# Altium schematic symbol library kmilo17pet-NSC_Switcher.SchLib: 2226 symbols (part 35 of 59)
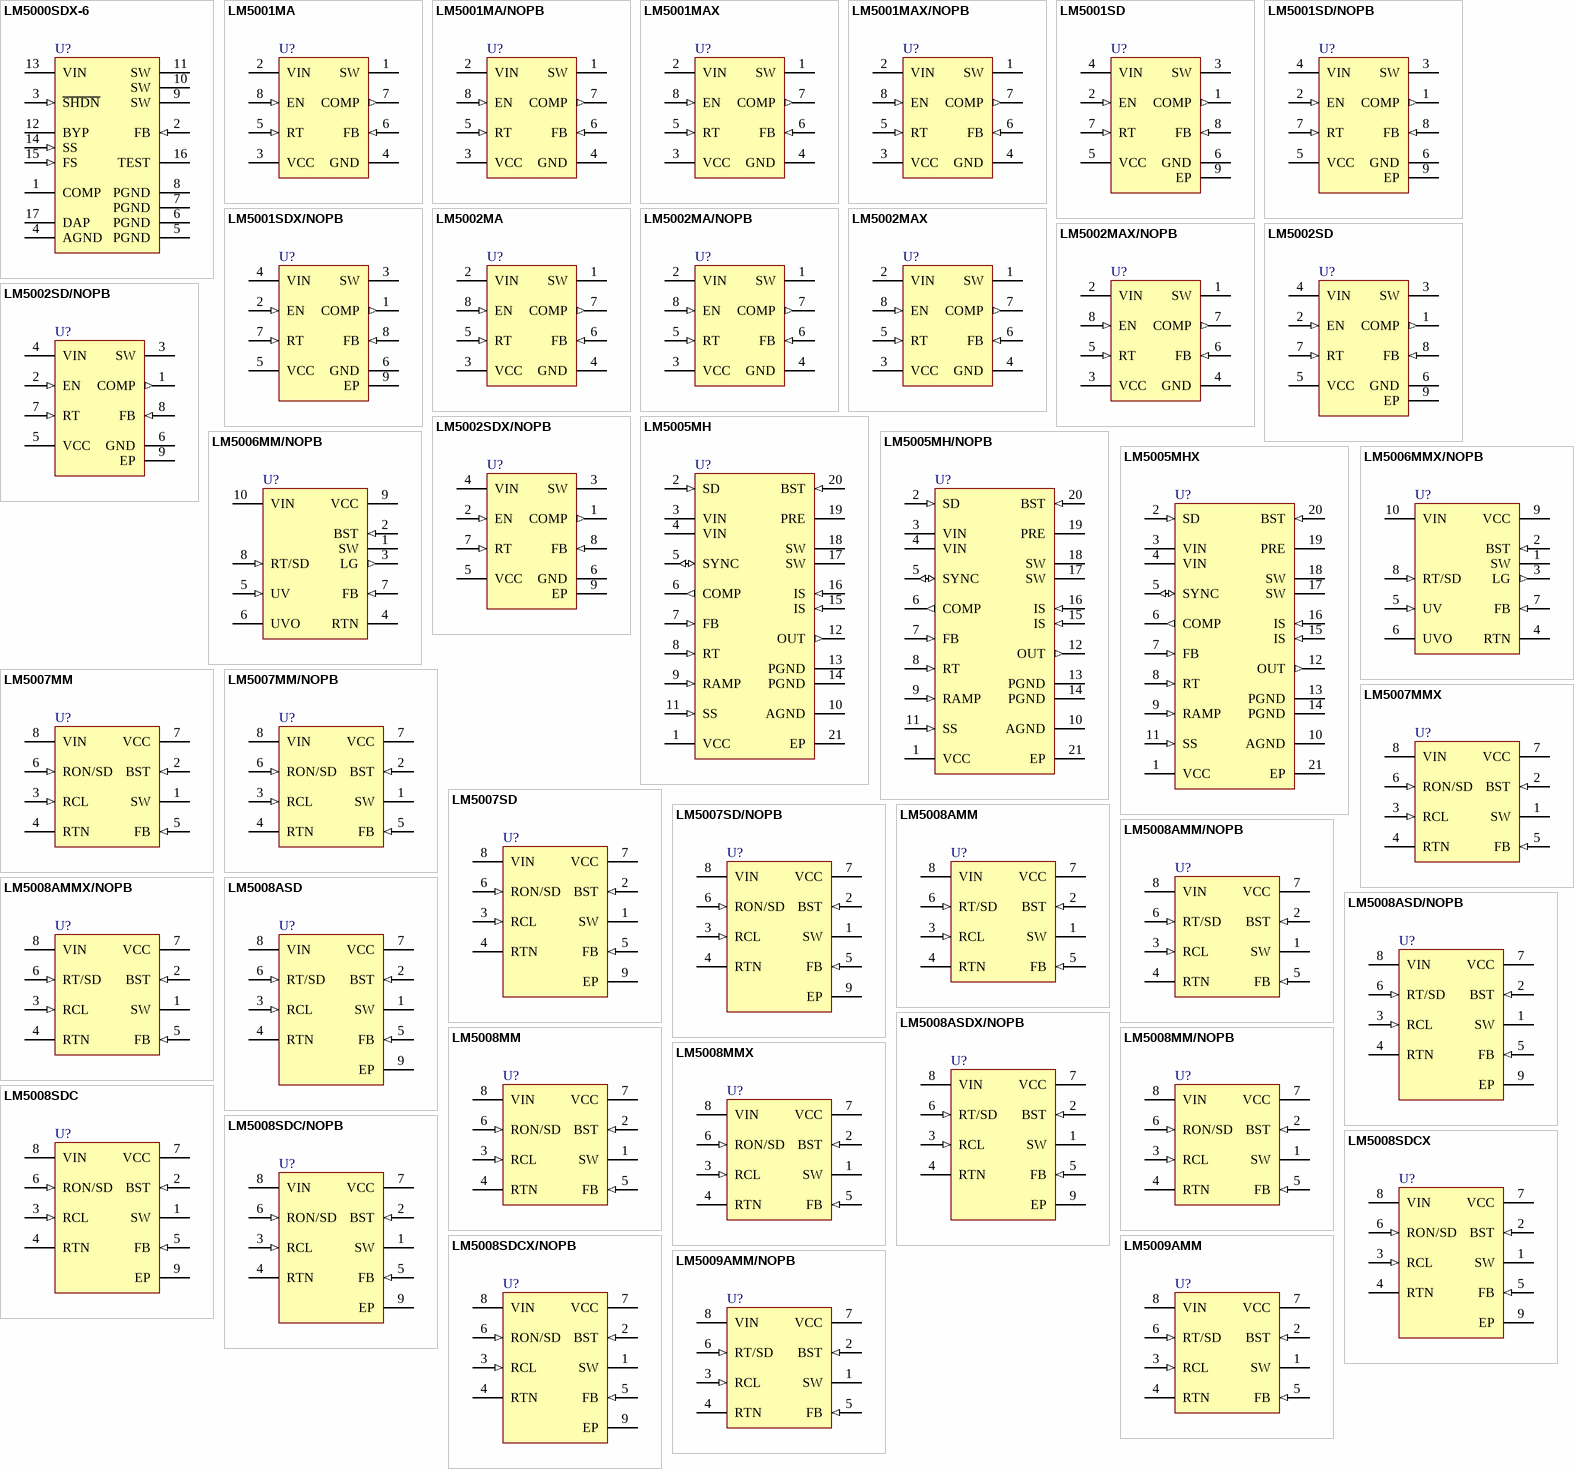
[diagram p103: symbols LM5000SDX-6 to LM5009AMM/NOPB]

## LM5008ASD/NOPB
designator U?
100V, 350 mA Constant On-Time Buck Switching Regulator, 8-pin LLP, Pb-Free; PartNumber: LM5008ASD/NOPB; Manufacturer: National Semiconductor; PackageTopMarking: NS*UZXYTT*L00070A; PowerWise: N; CompType: Switcher; High-Reliability: Y; DatasheetVersion: Jun-2009; PackageVersion: revA, Mar-2006; PackageReference: SDC08B; PackageDescription: LLP, Dual, 4 x 4 x 0.8mm Body, 8 Lead, 0.8mm Pitch, No Pullback, 1.98 x 3mm Exposed Pad; RoHS: Y; PinCount: 8; ComponentLink1Description: Manufacturer URL; ComponentLink1URL: http://www.national.com/; ComponentLink2Description: LM5008A Datasheet; ComponentLink2URL: http://www.national.com/ds/LM/LM5008A.pdf; ComponentLink3Description: LM5008A Web Page; ComponentLink3URL: http://www.national.com/pf/LM/LM5008A.html; ComponentLink4Description: SDC08B Package Page; ComponentLink4URL: http://www.national.com/packaging/folders/sdc08b.html
footprint SDC08B (SON, 8-Leads, Body 4x4mm, Pitch 0.8mm, NSC Recommended)
pins: 1 SW (power), 2 BST (in), 3 RCL (in), 4 RTN (power), 5 FB (in), 6 RT/SD (in), 7 VCC (power), 8 VIN (power), 9 EP (power)

## LM5008ASDX/NOPB
designator U?
100V, 350 mA Constant On-Time Buck Switching Regulator, 8-pin LLP, Pb-Free; PartNumber: LM5008ASDX/NOPB; Manufacturer: National Semiconductor; PackageTopMarking: NS*UZXYTT*L00070A; PowerWise: N; CompType: Switcher; High-Reliability: Y; DatasheetVersion: Jun-2009; PackageVersion: revA, Mar-2006; PackageReference: SDC08B; PackageDescription: LLP, Dual, 4 x 4 x 0.8mm Body, 8 Lead, 0.8mm Pitch, No Pullback, 1.98 x 3mm Exposed Pad; RoHS: Y; PinCount: 8; ComponentLink1Description: Manufacturer URL; ComponentLink1URL: http://www.national.com/; ComponentLink2Description: LM5008A Datasheet; ComponentLink2URL: http://www.national.com/ds/LM/LM5008A.pdf; ComponentLink3Description: LM5008A Web Page; ComponentLink3URL: http://www.national.com/pf/LM/LM5008A.html; ComponentLink4Description: SDC08B Package Page; ComponentLink4URL: http://www.national.com/packaging/folders/sdc08b.html
footprint SDC08B (SON, 8-Leads, Body 4x4mm, Pitch 0.8mm, NSC Recommended)
pins: 1 SW (power), 2 BST (in), 3 RCL (in), 4 RTN (power), 5 FB (in), 6 RT/SD (in), 7 VCC (power), 8 VIN (power), 9 EP (power)

## LM5008MM
designator U?
High Voltage (100V) Step Down Switching Regulator, 8-pin MSOP; PartNumber: LM5008MM; Manufacturer: National Semiconductor; PackageTopMarking: ZXTT*SAYB; PowerWise: N; CompType: Switcher; High-Reliability: Y; DatasheetVersion: Apr-2009; PackageVersion: revF, Apr-2008; PackageReference: MUA08A; PackageDescription: MINI SOIC, .118 x .118 x .034in, 8 Lead, .0256in Pitch; RoHS: N; PinCount: 8; Code_JEDEC: MO-187-AA; ComponentLink1Description: Manufacturer URL; ComponentLink1URL: http://www.national.com/; ComponentLink2Description: LM5008 Datasheet; ComponentLink2URL: http://www.national.com/ds/LM/LM5008.pdf; ComponentLink3Description: LM5008 Web Page; ComponentLink3URL: http://www.national.com/pf/LM/LM5008.html; ComponentLink4Description: MUA08A Package Page; ComponentLink4URL: http://www.national.com/packaging/folders/mua08a.html
footprint MUA08A_N (TSOP, 8-Leads, Body 3x3mm, Pitch 0.65mm, IPC Medium Density)
footprint MUA08A_L (TSOP, 8-Leads, Body 3x3mm, Pitch 0.65mm, IPC High Density)
footprint MUA08A_M (TSOP, 8-Leads, Body 3x3mm, Pitch 0.65mm, IPC Low Density)
pins: 1 SW (power), 2 BST (in), 3 RCL (in), 4 RTN (power), 5 FB (in), 6 RON/SD (in), 7 VCC (power), 8 VIN (power)

## LM5008MM/NOPB
designator U?
High Voltage (100V) Step Down Switching Regulator, 8-pin MSOP, Pb-Free; PartNumber: LM5008MM/NOPB; Manufacturer: National Semiconductor; PackageTopMarking: ZXTT*SAYB; PowerWise: N; CompType: Switcher; High-Reliability: Y; DatasheetVersion: Apr-2009; PackageVersion: revF, Apr-2008; PackageReference: MUA08A; PackageDescription: MINI SOIC, .118 x .118 x .034in, 8 Lead, .0256in Pitch; RoHS: Y; PinCount: 8; Code_JEDEC: MO-187-AA; ComponentLink1Description: Manufacturer URL; ComponentLink1URL: http://www.national.com/; ComponentLink2Description: LM5008 Datasheet; ComponentLink2URL: http://www.national.com/ds/LM/LM5008.pdf; ComponentLink3Description: LM5008 Web Page; ComponentLink3URL: http://www.national.com/pf/LM/LM5008.html; ComponentLink4Description: MUA08A Package Page; ComponentLink4URL: http://www.national.com/packaging/folders/mua08a.html
footprint MUA08A_N (TSOP, 8-Leads, Body 3x3mm, Pitch 0.65mm, IPC Medium Density)
footprint MUA08A_L (TSOP, 8-Leads, Body 3x3mm, Pitch 0.65mm, IPC High Density)
footprint MUA08A_M (TSOP, 8-Leads, Body 3x3mm, Pitch 0.65mm, IPC Low Density)
pins: 1 SW (power), 2 BST (in), 3 RCL (in), 4 RTN (power), 5 FB (in), 6 RON/SD (in), 7 VCC (power), 8 VIN (power)

## LM5008MMX
designator U?
High Voltage (100V) Step Down Switching Regulator, 8-pin MSOP; PartNumber: LM5008MMX; Manufacturer: National Semiconductor; PackageTopMarking: ZXTT*SAYB; PowerWise: N; CompType: Switcher; High-Reliability: Y; DatasheetVersion: Apr-2009; PackageVersion: revF, Apr-2008; PackageReference: MUA08A; PackageDescription: MINI SOIC, .118 x .118 x .034in, 8 Lead, .0256in Pitch; RoHS: N; PinCount: 8; Code_JEDEC: MO-187-AA; ComponentLink1Description: Manufacturer URL; ComponentLink1URL: http://www.national.com/; ComponentLink2Description: LM5008 Datasheet; ComponentLink2URL: http://www.national.com/ds/LM/LM5008.pdf; ComponentLink3Description: LM5008 Web Page; ComponentLink3URL: http://www.national.com/pf/LM/LM5008.html; ComponentLink4Description: MUA08A Package Page; ComponentLink4URL: http://www.national.com/packaging/folders/mua08a.html
footprint MUA08A_N (TSOP, 8-Leads, Body 3x3mm, Pitch 0.65mm, IPC Medium Density)
footprint MUA08A_L (TSOP, 8-Leads, Body 3x3mm, Pitch 0.65mm, IPC High Density)
footprint MUA08A_M (TSOP, 8-Leads, Body 3x3mm, Pitch 0.65mm, IPC Low Density)
pins: 1 SW (power), 2 BST (in), 3 RCL (in), 4 RTN (power), 5 FB (in), 6 RON/SD (in), 7 VCC (power), 8 VIN (power)

## LM5008SDC
designator U?
High Voltage (100V) Step Down Switching Regulator, 8-pin LLP; PartNumber: LM5008SDC; Manufacturer: National Semiconductor; PackageTopMarking: NS*UZXYTT*L5008SD; PowerWise: N; CompType: Switcher; High-Reliability: Y; DatasheetVersion: Apr-2009; PackageVersion: revA, Mar-2006; PackageReference: SDC08B; PackageDescription: LLP, Dual, 4 x 4 x 0.8mm Body, 8 Lead, 0.8mm Pitch, No Pullback, 1.98 x 3mm Exposed Pad; RoHS: N; PinCount: 8; ComponentLink1Description: Manufacturer URL; ComponentLink1URL: http://www.national.com/; ComponentLink2Description: LM5008 Datasheet; ComponentLink2URL: http://www.national.com/ds/LM/LM5008.pdf; ComponentLink3Description: LM5008 Web Page; ComponentLink3URL: http://www.national.com/pf/LM/LM5008.html; ComponentLink4Description: SDC08B Package Page; ComponentLink4URL: http://www.national.com/packaging/folders/sdc08b.html
footprint SDC08B (SON, 8-Leads, Body 4x4mm, Pitch 0.8mm, NSC Recommended)
pins: 1 SW (power), 2 BST (in), 3 RCL (in), 4 RTN (power), 5 FB (in), 6 RON/SD (in), 7 VCC (power), 8 VIN (power), 9 EP (power)

## LM5008SDC/NOPB
designator U?
High Voltage (100V) Step Down Switching Regulator, 8-pin LLP, Pb-Free; PartNumber: LM5008SDC/NOPB; Manufacturer: National Semiconductor; PackageTopMarking: NS*UZXYTT*L5008SD; PowerWise: N; CompType: Switcher; High-Reliability: Y; DatasheetVersion: Apr-2009; PackageVersion: revA, Mar-2006; PackageReference: SDC08B; PackageDescription: LLP, Dual, 4 x 4 x 0.8mm Body, 8 Lead, 0.8mm Pitch, No Pullback, 1.98 x 3mm Exposed Pad; RoHS: Y; PinCount: 8; ComponentLink1Description: Manufacturer URL; ComponentLink1URL: http://www.national.com/; ComponentLink2Description: LM5008 Datasheet; ComponentLink2URL: http://www.national.com/ds/LM/LM5008.pdf; ComponentLink3Description: LM5008 Web Page; ComponentLink3URL: http://www.national.com/pf/LM/LM5008.html; ComponentLink4Description: SDC08B Package Page; ComponentLink4URL: http://www.national.com/packaging/folders/sdc08b.html
footprint SDC08B (SON, 8-Leads, Body 4x4mm, Pitch 0.8mm, NSC Recommended)
pins: 1 SW (power), 2 BST (in), 3 RCL (in), 4 RTN (power), 5 FB (in), 6 RON/SD (in), 7 VCC (power), 8 VIN (power), 9 EP (power)

## LM5008SDCX
designator U?
High Voltage (100V) Step Down Switching Regulator, 8-pin LLP; PartNumber: LM5008SDCX; Manufacturer: National Semiconductor; PackageTopMarking: NS*UZXYTT*L5008SD; PowerWise: N; CompType: Switcher; High-Reliability: Y; DatasheetVersion: Apr-2009; PackageVersion: revA, Mar-2006; PackageReference: SDC08B; PackageDescription: LLP, Dual, 4 x 4 x 0.8mm Body, 8 Lead, 0.8mm Pitch, No Pullback, 1.98 x 3mm Exposed Pad; RoHS: N; PinCount: 8; ComponentLink1Description: Manufacturer URL; ComponentLink1URL: http://www.national.com/; ComponentLink2Description: LM5008 Datasheet; ComponentLink2URL: http://www.national.com/ds/LM/LM5008.pdf; ComponentLink3Description: LM5008 Web Page; ComponentLink3URL: http://www.national.com/pf/LM/LM5008.html; ComponentLink4Description: SDC08B Package Page; ComponentLink4URL: http://www.national.com/packaging/folders/sdc08b.html
footprint SDC08B (SON, 8-Leads, Body 4x4mm, Pitch 0.8mm, NSC Recommended)
pins: 1 SW (power), 2 BST (in), 3 RCL (in), 4 RTN (power), 5 FB (in), 6 RON/SD (in), 7 VCC (power), 8 VIN (power), 9 EP (power)

## LM5008SDCX/NOPB
designator U?
High Voltage (100V) Step Down Switching Regulator, 8-pin LLP, Pb-Free; PartNumber: LM5008SDCX/NOPB; Manufacturer: National Semiconductor; PackageTopMarking: NS*UZXYTT*L5008SD; PowerWise: N; CompType: Switcher; High-Reliability: Y; DatasheetVersion: Apr-2009; PackageVersion: revA, Mar-2006; PackageReference: SDC08B; PackageDescription: LLP, Dual, 4 x 4 x 0.8mm Body, 8 Lead, 0.8mm Pitch, No Pullback, 1.98 x 3mm Exposed Pad; RoHS: Y; PinCount: 8; ComponentLink1Description: Manufacturer URL; ComponentLink1URL: http://www.national.com/; ComponentLink2Description: LM5008 Datasheet; ComponentLink2URL: http://www.national.com/ds/LM/LM5008.pdf; ComponentLink3Description: LM5008 Web Page; ComponentLink3URL: http://www.national.com/pf/LM/LM5008.html; ComponentLink4Description: SDC08B Package Page; ComponentLink4URL: http://www.national.com/packaging/folders/sdc08b.html
footprint SDC08B (SON, 8-Leads, Body 4x4mm, Pitch 0.8mm, NSC Recommended)
pins: 1 SW (power), 2 BST (in), 3 RCL (in), 4 RTN (power), 5 FB (in), 6 RON/SD (in), 7 VCC (power), 8 VIN (power), 9 EP (power)

## LM5009AMM
designator U?
150 mA, 100V Step-Down Switching Regulator, 8-pin MSOP; PartNumber: LM5009AMM; Manufacturer: National Semiconductor; PackageTopMarking: ZXTT*SLLA; PowerWise: Y; CompType: Switcher; DatasheetVersion: Jun-2009; PackageVersion: revF, Apr-2008; PackageReference: MUA08A; PackageDescription: MINI SOIC, .118 x .118 x .034in, 8 Lead, .0256in Pitch; RoHS: Y; PinCount: 8; High-Reliability: Y; Code_JEDEC: MO-187-AA; ComponentLink1Description: Manufacturer URL; ComponentLink1URL: http://www.national.com/; ComponentLink2Description: LM5009A Datasheet; ComponentLink2URL: http://www.national.com/ds/LM/LM5009A.pdf; ComponentLink3Description: LM5009A Web Page; ComponentLink3URL: http://www.national.com/pf/LM/LM5009A.html; ComponentLink4Description: MUA08A Package Page; ComponentLink4URL: http://www.national.com/packaging/folders/mua08a.html
footprint MUA08A_N (TSOP, 8-Leads, Body 3x3mm, Pitch 0.65mm, IPC Medium Density)
footprint MUA08A_L (TSOP, 8-Leads, Body 3x3mm, Pitch 0.65mm, IPC High Density)
footprint MUA08A_M (TSOP, 8-Leads, Body 3x3mm, Pitch 0.65mm, IPC Low Density)
pins: 1 SW (power), 2 BST (in), 3 RCL (in), 4 RTN (power), 5 FB (in), 6 RT/SD (in), 7 VCC (power), 8 VIN (power)

## LM5009AMM/NOPB
designator U?
100V, 150 mA Constant On-Time Buck Switching Regulator, 8-pin MSOP, Pb-Free; PartNumber: LM5009AMM/NOPB; Manufacturer: National Semiconductor; PackageTopMarking: ZXTT*SLLA; PowerWise: Y; CompType: Switcher; DatasheetVersion: Jun-2009; PackageVersion: revF, Apr-2008; PackageReference: MUA08A; PackageDescription: MINI SOIC, .118 x .118 x .034in, 8 Lead, .0256in Pitch; RoHS: Y; PinCount: 8; High-Reliability: Y; Code_JEDEC: MO-187-AA; ComponentLink1Description: Manufacturer URL; ComponentLink1URL: http://www.national.com/; ComponentLink2Description: LM5009A Datasheet; ComponentLink2URL: http://www.national.com/ds/LM/LM5009A.pdf; ComponentLink3Description: LM5009A Web Page; ComponentLink3URL: http://www.national.com/pf/LM/LM5009A.html; ComponentLink4Description: MUA08A Package Page; ComponentLink4URL: http://www.national.com/packaging/folders/mua08a.html
footprint MUA08A_N (TSOP, 8-Leads, Body 3x3mm, Pitch 0.65mm, IPC Medium Density)
footprint MUA08A_L (TSOP, 8-Leads, Body 3x3mm, Pitch 0.65mm, IPC High Density)
footprint MUA08A_M (TSOP, 8-Leads, Body 3x3mm, Pitch 0.65mm, IPC Low Density)
pins: 1 SW (power), 2 BST (in), 3 RCL (in), 4 RTN (power), 5 FB (in), 6 RT/SD (in), 7 VCC (power), 8 VIN (power)

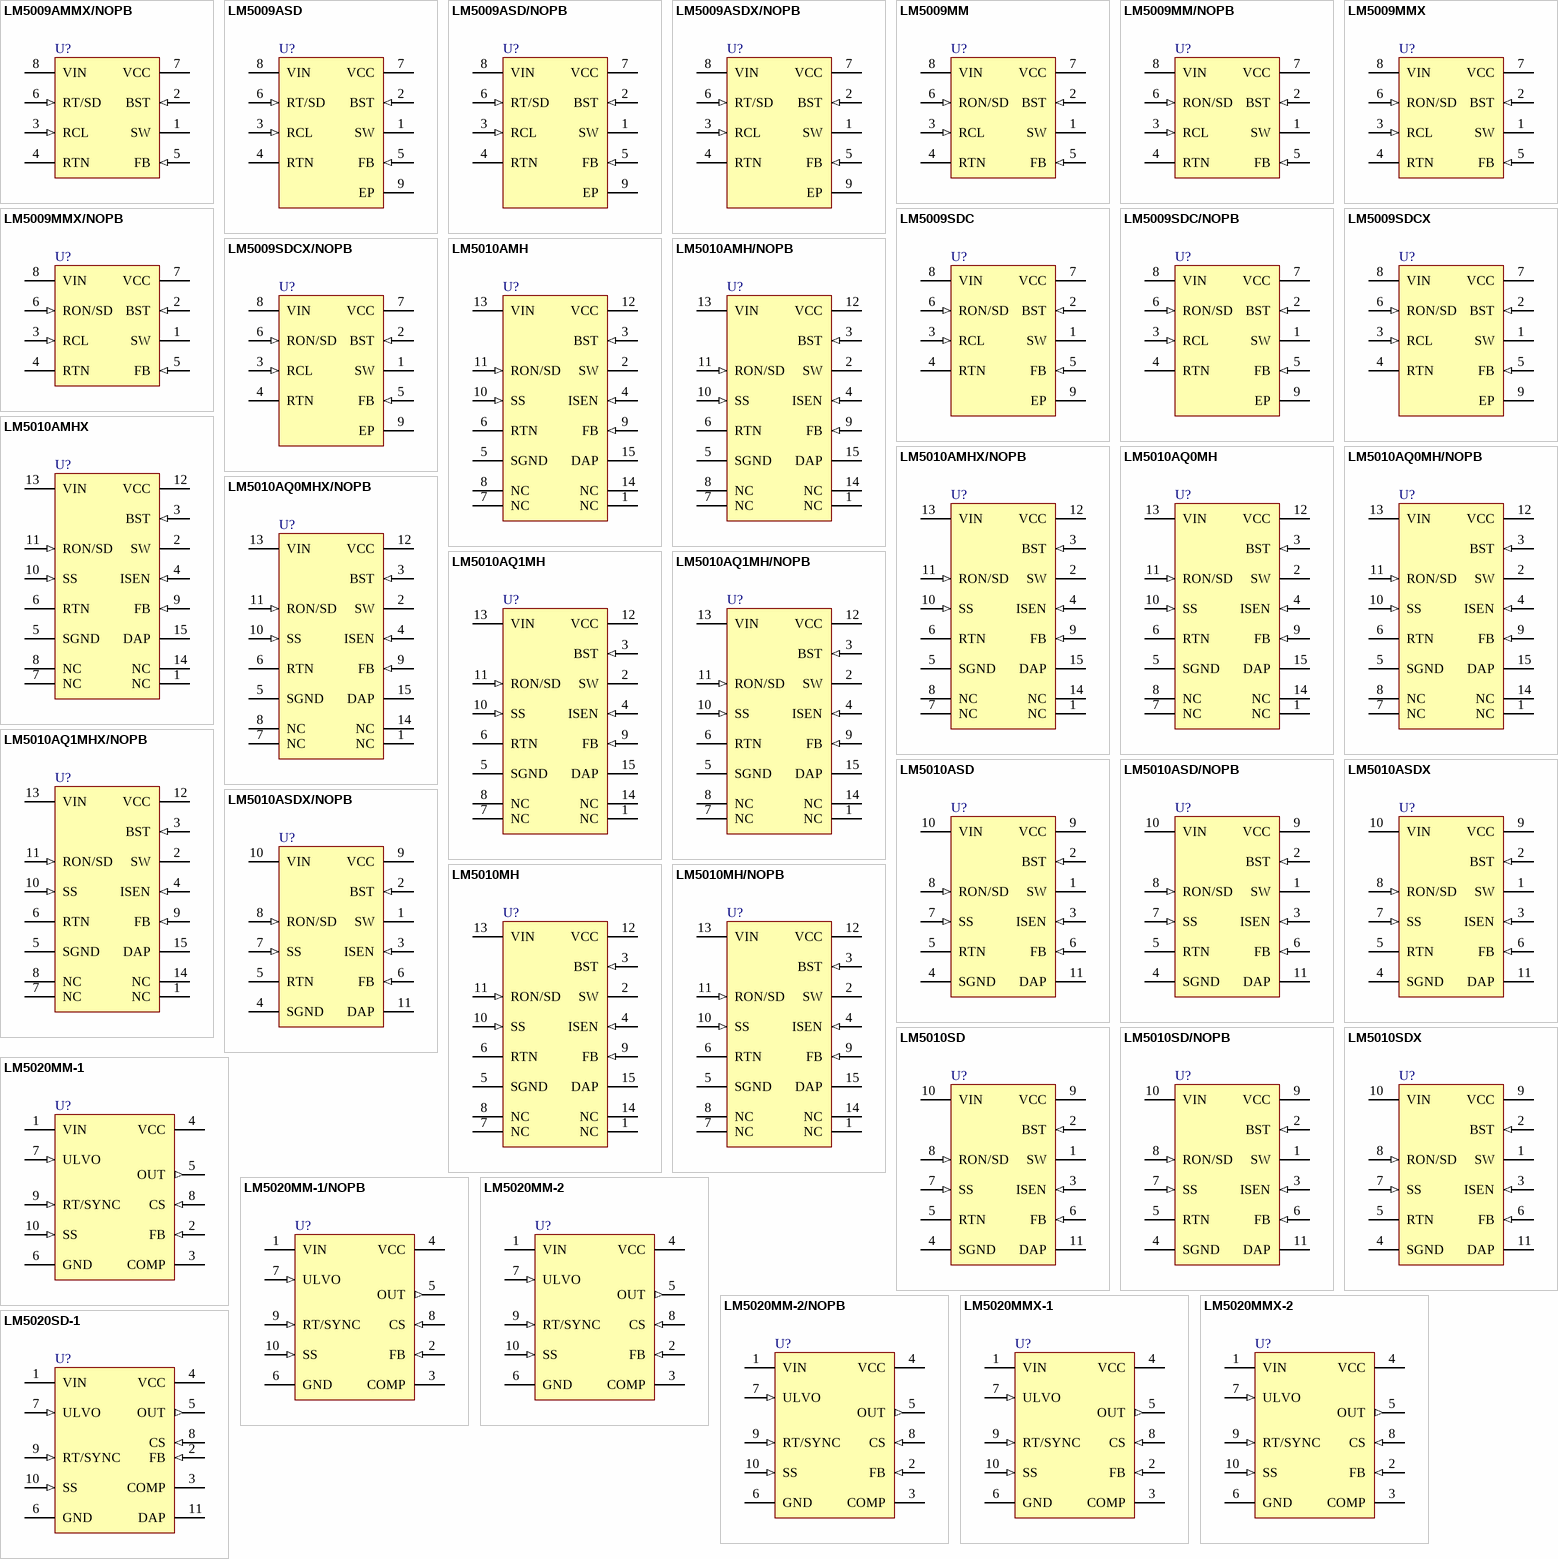
[diagram p38: symbols LM5009AMMX/NOPB to LM5020SD-1]

## LM5009AMMX/NOPB
designator U?
100V, 150 mA Constant On-Time Buck Switching Regulator, 8-pin MSOP, Pb-Free; PartNumber: LM5009AMMX/NOPB; Manufacturer: National Semiconductor; PackageTopMarking: ZXTT*SLLA; PowerWise: Y; CompType: Switcher; DatasheetVersion: Jun-2009; PackageVersion: revF, Apr-2008; PackageReference: MUA08A; PackageDescription: MINI SOIC, .118 x .118 x .034in, 8 Lead, .0256in Pitch; RoHS: Y; PinCount: 8; High-Reliability: Y; Code_JEDEC: MO-187-AA; ComponentLink1Description: Manufacturer URL; ComponentLink1URL: http://www.national.com/; ComponentLink2Description: LM5009A Datasheet; ComponentLink2URL: http://www.national.com/ds/LM/LM5009A.pdf; ComponentLink3Description: LM5009A Web Page; ComponentLink3URL: http://www.national.com/pf/LM/LM5009A.html; ComponentLink4Description: MUA08A Package Page; ComponentLink4URL: http://www.national.com/packaging/folders/mua08a.html
footprint MUA08A_N (TSOP, 8-Leads, Body 3x3mm, Pitch 0.65mm, IPC Medium Density)
footprint MUA08A_L (TSOP, 8-Leads, Body 3x3mm, Pitch 0.65mm, IPC High Density)
footprint MUA08A_M (TSOP, 8-Leads, Body 3x3mm, Pitch 0.65mm, IPC Low Density)
pins: 1 SW (power), 2 BST (in), 3 RCL (in), 4 RTN (power), 5 FB (in), 6 RT/SD (in), 7 VCC (power), 8 VIN (power)

## LM5009ASD
designator U?
150 mA, 100V Step-Down Switching Regulatorr, 8-pin LLP; PartNumber: LM5009ASD; Manufacturer: National Semiconductor; PackageTopMarking: NS*UZXYTT*5009ASD; PowerWise: Y; CompType: Switcher; DatasheetVersion: Jun-2009; PackageVersion: revA, Mar-2006; PackageReference: SDC08B; PackageDescription: LLP, Dual, 4 x 4 x 0.8mm Body, 8 Lead, 0.8mm Pitch, No Pullback, 1.98 x 3mm Exposed Pad; RoHS: Y; PinCount: 8; High-Reliability: Y; ComponentLink1Description: Manufacturer URL; ComponentLink1URL: http://www.national.com/; ComponentLink2Description: LM5009A Datasheet; ComponentLink2URL: http://www.national.com/ds/LM/LM5009A.pdf; ComponentLink3Description: LM5009A Web Page; ComponentLink3URL: http://www.national.com/pf/LM/LM5009A.html; ComponentLink4Description: SDC08B Package Page; ComponentLink4URL: http://www.national.com/packaging/folders/sdc08b.html
footprint SDC08B (SON, 8-Leads, Body 4x4mm, Pitch 0.8mm, NSC Recommended)
pins: 1 SW (power), 2 BST (in), 3 RCL (in), 4 RTN (power), 5 FB (in), 6 RT/SD (in), 7 VCC (power), 8 VIN (power), 9 EP (power)

## LM5009ASD/NOPB
designator U?
100V, 150 mA Constant On-Time Buck Switching Regulator, 8-pin LLP, Pb-Free; PartNumber: LM5009ASD/NOPB; Manufacturer: National Semiconductor; PackageTopMarking: NS*UZXYTT*5009ASD; PowerWise: Y; CompType: Switcher; DatasheetVersion: Jun-2009; PackageVersion: revA, Mar-2006; PackageReference: SDC08B; PackageDescription: LLP, Dual, 4 x 4 x 0.8mm Body, 8 Lead, 0.8mm Pitch, No Pullback, 1.98 x 3mm Exposed Pad; RoHS: Y; PinCount: 8; High-Reliability: Y; ComponentLink1Description: Manufacturer URL; ComponentLink1URL: http://www.national.com/; ComponentLink2Description: LM5009A Datasheet; ComponentLink2URL: http://www.national.com/ds/LM/LM5009A.pdf; ComponentLink3Description: LM5009A Web Page; ComponentLink3URL: http://www.national.com/pf/LM/LM5009A.html; ComponentLink4Description: SDC08B Package Page; ComponentLink4URL: http://www.national.com/packaging/folders/sdc08b.html
footprint SDC08B (SON, 8-Leads, Body 4x4mm, Pitch 0.8mm, NSC Recommended)
pins: 1 SW (power), 2 BST (in), 3 RCL (in), 4 RTN (power), 5 FB (in), 6 RT/SD (in), 7 VCC (power), 8 VIN (power), 9 EP (power)

## LM5009ASDX/NOPB
designator U?
100V, 150 mA Constant On-Time Buck Switching Regulator, 8-pin LLP, Pb-Free; PartNumber: LM5009ASDX/NOPB; Manufacturer: National Semiconductor; PackageTopMarking: NS*UZXYTT*5009ASD; PowerWise: Y; CompType: Switcher; DatasheetVersion: Jun-2009; PackageVersion: revA, Mar-2006; PackageReference: SDC08B; PackageDescription: LLP, Dual, 4 x 4 x 0.8mm Body, 8 Lead, 0.8mm Pitch, No Pullback, 1.98 x 3mm Exposed Pad; RoHS: Y; PinCount: 8; High-Reliability: Y; ComponentLink1Description: Manufacturer URL; ComponentLink1URL: http://www.national.com/; ComponentLink2Description: LM5009A Datasheet; ComponentLink2URL: http://www.national.com/ds/LM/LM5009A.pdf; ComponentLink3Description: LM5009A Web Page; ComponentLink3URL: http://www.national.com/pf/LM/LM5009A.html; ComponentLink4Description: SDC08B Package Page; ComponentLink4URL: http://www.national.com/packaging/folders/sdc08b.html
footprint SDC08B (SON, 8-Leads, Body 4x4mm, Pitch 0.8mm, NSC Recommended)
pins: 1 SW (power), 2 BST (in), 3 RCL (in), 4 RTN (power), 5 FB (in), 6 RT/SD (in), 7 VCC (power), 8 VIN (power), 9 EP (power)

## LM5009MM
designator U?
150 mA, 100V Step-Down Switching Regulator, 8-pin MSOP; PartNumber: LM5009MM; Manufacturer: National Semiconductor; PackageTopMarking: ZXTT*SLLB; PowerWise: Y; CompType: Switcher; DatasheetVersion: Feb-2008; PackageVersion: revF, Apr-2008; PackageReference: MUA08A; PackageDescription: MINI SOIC, .118 x .118 x .034in, 8 Lead, .0256in Pitch; RoHS: N; PinCount: 8; High-Reliability: Y; Code_JEDEC: MO-187-AA; ComponentLink1Description: Manufacturer URL; ComponentLink1URL: http://www.national.com/; ComponentLink2Description: LM5009 Datasheet; ComponentLink2URL: http://www.national.com/ds/LM/LM5009.pdf; ComponentLink3Description: LM5009 Web Page; ComponentLink3URL: http://www.national.com/pf/LM/LM5009.html; ComponentLink4Description: MUA08A Package Page; ComponentLink4URL: http://www.national.com/packaging/folders/mua08a.html
footprint MUA08A_N (TSOP, 8-Leads, Body 3x3mm, Pitch 0.65mm, IPC Medium Density)
footprint MUA08A_L (TSOP, 8-Leads, Body 3x3mm, Pitch 0.65mm, IPC High Density)
footprint MUA08A_M (TSOP, 8-Leads, Body 3x3mm, Pitch 0.65mm, IPC Low Density)
pins: 1 SW (power), 2 BST (in), 3 RCL (in), 4 RTN (power), 5 FB (in), 6 RON/SD (in), 7 VCC (power), 8 VIN (power)

## LM5009MM/NOPB
designator U?
150 mA, 100V Step-Down Switching Regulator, 8-pin MSOP, Pb-Free; PartNumber: LM5009MM/NOPB; Manufacturer: National Semiconductor; PackageTopMarking: ZXTT*SLLB; PowerWise: Y; CompType: Switcher; DatasheetVersion: Feb-2008; PackageVersion: revF, Apr-2008; PackageReference: MUA08A; PackageDescription: MINI SOIC, .118 x .118 x .034in, 8 Lead, .0256in Pitch; RoHS: Y; PinCount: 8; High-Reliability: Y; Code_JEDEC: MO-187-AA; ComponentLink1Description: Manufacturer URL; ComponentLink1URL: http://www.national.com/; ComponentLink2Description: LM5009 Datasheet; ComponentLink2URL: http://www.national.com/ds/LM/LM5009.pdf; ComponentLink3Description: LM5009 Web Page; ComponentLink3URL: http://www.national.com/pf/LM/LM5009.html; ComponentLink4Description: MUA08A Package Page; ComponentLink4URL: http://www.national.com/packaging/folders/mua08a.html
footprint MUA08A_N (TSOP, 8-Leads, Body 3x3mm, Pitch 0.65mm, IPC Medium Density)
footprint MUA08A_L (TSOP, 8-Leads, Body 3x3mm, Pitch 0.65mm, IPC High Density)
footprint MUA08A_M (TSOP, 8-Leads, Body 3x3mm, Pitch 0.65mm, IPC Low Density)
pins: 1 SW (power), 2 BST (in), 3 RCL (in), 4 RTN (power), 5 FB (in), 6 RON/SD (in), 7 VCC (power), 8 VIN (power)

## LM5009MMX
designator U?
150 mA, 100V Step-Down Switching Regulator, 8-pin MSOP; PartNumber: LM5009MMX; Manufacturer: National Semiconductor; PackageTopMarking: ZXTT*SLLB; PowerWise: Y; CompType: Switcher; DatasheetVersion: Feb-2008; PackageVersion: revF, Apr-2008; PackageReference: MUA08A; PackageDescription: MINI SOIC, .118 x .118 x .034in, 8 Lead, .0256in Pitch; RoHS: N; PinCount: 8; High-Reliability: Y; Code_JEDEC: MO-187-AA; ComponentLink1Description: Manufacturer URL; ComponentLink1URL: http://www.national.com/; ComponentLink2Description: LM5009 Datasheet; ComponentLink2URL: http://www.national.com/ds/LM/LM5009.pdf; ComponentLink3Description: LM5009 Web Page; ComponentLink3URL: http://www.national.com/pf/LM/LM5009.html; ComponentLink4Description: MUA08A Package Page; ComponentLink4URL: http://www.national.com/packaging/folders/mua08a.html
footprint MUA08A_N (TSOP, 8-Leads, Body 3x3mm, Pitch 0.65mm, IPC Medium Density)
footprint MUA08A_L (TSOP, 8-Leads, Body 3x3mm, Pitch 0.65mm, IPC High Density)
footprint MUA08A_M (TSOP, 8-Leads, Body 3x3mm, Pitch 0.65mm, IPC Low Density)
pins: 1 SW (power), 2 BST (in), 3 RCL (in), 4 RTN (power), 5 FB (in), 6 RON/SD (in), 7 VCC (power), 8 VIN (power)

## LM5009MMX/NOPB
designator U?
150 mA, 100V Step-Down Switching Regulator, 8-pin MSOP, Pb-Free; PartNumber: LM5009MMX/NOPB; Manufacturer: National Semiconductor; PackageTopMarking: ZXTT*SLLB; PowerWise: Y; CompType: Switcher; DatasheetVersion: Feb-2008; PackageVersion: revF, Apr-2008; PackageReference: MUA08A; PackageDescription: MINI SOIC, .118 x .118 x .034in, 8 Lead, .0256in Pitch; RoHS: Y; PinCount: 8; High-Reliability: Y; Code_JEDEC: MO-187-AA; ComponentLink1Description: Manufacturer URL; ComponentLink1URL: http://www.national.com/; ComponentLink2Description: LM5009 Datasheet; ComponentLink2URL: http://www.national.com/ds/LM/LM5009.pdf; ComponentLink3Description: LM5009 Web Page; ComponentLink3URL: http://www.national.com/pf/LM/LM5009.html; ComponentLink4Description: MUA08A Package Page; ComponentLink4URL: http://www.national.com/packaging/folders/mua08a.html
footprint MUA08A_N (TSOP, 8-Leads, Body 3x3mm, Pitch 0.65mm, IPC Medium Density)
footprint MUA08A_L (TSOP, 8-Leads, Body 3x3mm, Pitch 0.65mm, IPC High Density)
footprint MUA08A_M (TSOP, 8-Leads, Body 3x3mm, Pitch 0.65mm, IPC Low Density)
pins: 1 SW (power), 2 BST (in), 3 RCL (in), 4 RTN (power), 5 FB (in), 6 RON/SD (in), 7 VCC (power), 8 VIN (power)

## LM5009SDC
designator U?
150 mA, 100V Step-Down Switching Regulatorr, 8-pin LLP; PartNumber: LM5009SDC; Manufacturer: National Semiconductor; PackageTopMarking: NS*UZXYTT*5009SD; PowerWise: Y; CompType: Switcher; DatasheetVersion: Feb-2008; PackageVersion: revA, Mar-2006; PackageReference: SDC08B; PackageDescription: LLP, Dual, 4 x 4 x 0.8mm Body, 8 Lead, 0.8mm Pitch, No Pullback, 1.98 x 3mm Exposed Pad; RoHS: N; PinCount: 8; High-Reliability: Y; ComponentLink1Description: Manufacturer URL; ComponentLink1URL: http://www.national.com/; ComponentLink2Description: LM5009 Datasheet; ComponentLink2URL: http://www.national.com/ds/LM/LM5009.pdf; ComponentLink3Description: LM5009 Web Page; ComponentLink3URL: http://www.national.com/pf/LM/LM5009.html; ComponentLink4Description: SDC08B Package Page; ComponentLink4URL: http://www.national.com/packaging/folders/sdc08b.html
footprint SDC08B (SON, 8-Leads, Body 4x4mm, Pitch 0.8mm, NSC Recommended)
pins: 1 SW (power), 2 BST (in), 3 RCL (in), 4 RTN (power), 5 FB (in), 6 RON/SD (in), 7 VCC (power), 8 VIN (power), 9 EP (power)

## LM5009SDC/NOPB
designator U?
150 mA, 100V Step-Down Switching Regulator, 8-pin LLP, Pb-Free; PartNumber: LM5009SDC/NOPB; Manufacturer: National Semiconductor; PackageTopMarking: NS*UZXYTT*5009SD; PowerWise: Y; CompType: Switcher; DatasheetVersion: Feb-2008; PackageVersion: revA, Mar-2006; PackageReference: SDC08B; PackageDescription: LLP, Dual, 4 x 4 x 0.8mm Body, 8 Lead, 0.8mm Pitch, No Pullback, 1.98 x 3mm Exposed Pad; RoHS: Y; PinCount: 8; High-Reliability: Y; ComponentLink1Description: Manufacturer URL; ComponentLink1URL: http://www.national.com/; ComponentLink2Description: LM5009 Datasheet; ComponentLink2URL: http://www.national.com/ds/LM/LM5009.pdf; ComponentLink3Description: LM5009 Web Page; ComponentLink3URL: http://www.national.com/pf/LM/LM5009.html; ComponentLink4Description: SDC08B Package Page; ComponentLink4URL: http://www.national.com/packaging/folders/sdc08b.html
footprint SDC08B (SON, 8-Leads, Body 4x4mm, Pitch 0.8mm, NSC Recommended)
pins: 1 SW (power), 2 BST (in), 3 RCL (in), 4 RTN (power), 5 FB (in), 6 RON/SD (in), 7 VCC (power), 8 VIN (power), 9 EP (power)

## LM5009SDCX
designator U?
150 mA, 100V Step-Down Switching Regulator, 8-pin LLP; PartNumber: LM5009SDCX; Manufacturer: National Semiconductor; PackageTopMarking: NS*UZXYTT*5009SD; PowerWise: Y; CompType: Switcher; DatasheetVersion: Feb-2008; PackageVersion: revA, Mar-2006; PackageReference: SDC08B; PackageDescription: LLP, Dual, 4 x 4 x 0.8mm Body, 8 Lead, 0.8mm Pitch, No Pullback, 1.98 x 3mm Exposed Pad; RoHS: N; PinCount: 8; High-Reliability: Y; ComponentLink1Description: Manufacturer URL; ComponentLink1URL: http://www.national.com/; ComponentLink2Description: LM5009 Datasheet; ComponentLink2URL: http://www.national.com/ds/LM/LM5009.pdf; ComponentLink3Description: LM5009 Web Page; ComponentLink3URL: http://www.national.com/pf/LM/LM5009.html; ComponentLink4Description: SDC08B Package Page; ComponentLink4URL: http://www.national.com/packaging/folders/sdc08b.html
footprint SDC08B (SON, 8-Leads, Body 4x4mm, Pitch 0.8mm, NSC Recommended)
pins: 1 SW (power), 2 BST (in), 3 RCL (in), 4 RTN (power), 5 FB (in), 6 RON/SD (in), 7 VCC (power), 8 VIN (power), 9 EP (power)

## LM5009SDCX/NOPB
designator U?
150 mA, 100V Step-Down Switching Regulator, 8-pin LLP, Pb-Free; PartNumber: LM5009SDCX/NOPB; Manufacturer: National Semiconductor; PackageTopMarking: NS*UZXYTT*5009SD; PowerWise: Y; CompType: Switcher; DatasheetVersion: Feb-2008; PackageVersion: revA, Mar-2006; PackageReference: SDC08B; PackageDescription: LLP, Dual, 4 x 4 x 0.8mm Body, 8 Lead, 0.8mm Pitch, No Pullback, 1.98 x 3mm Exposed Pad; RoHS: Y; PinCount: 8; High-Reliability: Y; ComponentLink1Description: Manufacturer URL; ComponentLink1URL: http://www.national.com/; ComponentLink2Description: LM5009 Datasheet; ComponentLink2URL: http://www.national.com/ds/LM/LM5009.pdf; ComponentLink3Description: LM5009 Web Page; ComponentLink3URL: http://www.national.com/pf/LM/LM5009.html; ComponentLink4Description: SDC08B Package Page; ComponentLink4URL: http://www.national.com/packaging/folders/sdc08b.html
footprint SDC08B (SON, 8-Leads, Body 4x4mm, Pitch 0.8mm, NSC Recommended)
pins: 1 SW (power), 2 BST (in), 3 RCL (in), 4 RTN (power), 5 FB (in), 6 RON/SD (in), 7 VCC (power), 8 VIN (power), 9 EP (power)

## LM5010AMH
designator U?
High Voltage 1A Step Down Switching Regulator, 14-pin TSSOP-EP; PartNumber: LM5010AMH; Manufacturer: National Semiconductor; PackageTopMarking: NSUZXYTT*L5010*AMH; PowerWise: N; CompType: Switcher; High-Reliability: Y; DatasheetVersion: Dec-2008; PackageVersion: revA, Feb-2003; PackageReference: MXA14A; PackageDescription: Molded TSSOP, JEDEC, Exposed Pad, 5.0 x 4.4 x 0.9mm Body, 14 Lead, 0.65mm Pitch; RoHS: N; PinCount: 14; Code_JEDEC: MO-153-ABT-1; ComponentLink1Description: Manufacturer URL; ComponentLink1URL: http://www.national.com/; ComponentLink2Description: LM5010A Datasheet; ComponentLink2URL: http://www.national.com/ds/LM/LM5010A.pdf; ComponentLink3Description: LM5010A Web Page; ComponentLink3URL: http://www.national.com/pf/LM/LM5010A.html; ComponentLink4Description: MXA14A Package Page; ComponentLink4URL: http://www.national.com/packaging/folders/mxa14a.html
footprint MXA14A_N (TSOP, 14-Leads, Body 5x4.4mm, Pitch 0.65mm, Thermal Pad, IPC Medium Density)
footprint MXA14A_L (TSOP, 14-Leads, Body 5x4.4mm, Pitch 0.65mm, Thermal Pad, IPC High Density)
footprint MXA14A_M (TSOP, 14-Leads, Body 5x4.4mm, Pitch 0.65mm, Thermal Pad, IPC Low Density)
pins: 1 NC, 2 SW (power), 3 BST (in), 4 ISEN (in), 5 SGND (power), 6 RTN (power), 7 NC, 8 NC, 9 FB (in), 10 SS (in), 11 RON/SD (in), 12 VCC (power), 13 VIN (power), 14 NC, 15 DAP (power)

## LM5010AMH/NOPB
designator U?
High Voltage 1A Step Down Switching Regulator, 14-pin TSSOP-EP, Pb-Free; PartNumber: LM5010AMH/NOPB; Manufacturer: National Semiconductor; PackageTopMarking: NSUZXYTT*L5010*AMH; PowerWise: N; CompType: Switcher; High-Reliability: Y; DatasheetVersion: Dec-2008; PackageVersion: revA, Feb-2003; PackageReference: MXA14A; PackageDescription: Molded TSSOP, JEDEC, Exposed Pad, 5.0 x 4.4 x 0.9mm Body, 14 Lead, 0.65mm Pitch; RoHS: Y; PinCount: 14; Code_JEDEC: MO-153-ABT-1; ComponentLink1Description: Manufacturer URL; ComponentLink1URL: http://www.national.com/; ComponentLink2Description: LM5010A Datasheet; ComponentLink2URL: http://www.national.com/ds/LM/LM5010A.pdf; ComponentLink3Description: LM5010A Web Page; ComponentLink3URL: http://www.national.com/pf/LM/LM5010A.html; ComponentLink4Description: MXA14A Package Page; ComponentLink4URL: http://www.national.com/packaging/folders/mxa14a.html
footprint MXA14A_N (TSOP, 14-Leads, Body 5x4.4mm, Pitch 0.65mm, Thermal Pad, IPC Medium Density)
footprint MXA14A_L (TSOP, 14-Leads, Body 5x4.4mm, Pitch 0.65mm, Thermal Pad, IPC High Density)
footprint MXA14A_M (TSOP, 14-Leads, Body 5x4.4mm, Pitch 0.65mm, Thermal Pad, IPC Low Density)
pins: 1 NC, 2 SW (power), 3 BST (in), 4 ISEN (in), 5 SGND (power), 6 RTN (power), 7 NC, 8 NC, 9 FB (in), 10 SS (in), 11 RON/SD (in), 12 VCC (power), 13 VIN (power), 14 NC, 15 DAP (power)

## LM5010AMHX
designator U?
High Voltage 1A Step Down Switching Regulator, 14-pin TSSOP-EP; PartNumber: LM5010AMHX; Manufacturer: National Semiconductor; PackageTopMarking: NSUZXYTT*L5010*AMH; PowerWise: N; CompType: Switcher; High-Reliability: Y; DatasheetVersion: Dec-2008; PackageVersion: revA, Feb-2003; PackageReference: MXA14A; PackageDescription: Molded TSSOP, JEDEC, Exposed Pad, 5.0 x 4.4 x 0.9mm Body, 14 Lead, 0.65mm Pitch; RoHS: N; PinCount: 14; Code_JEDEC: MO-153-ABT-1; ComponentLink1Description: Manufacturer URL; ComponentLink1URL: http://www.national.com/; ComponentLink2Description: LM5010A Datasheet; ComponentLink2URL: http://www.national.com/ds/LM/LM5010A.pdf; ComponentLink3Description: LM5010A Web Page; ComponentLink3URL: http://www.national.com/pf/LM/LM5010A.html; ComponentLink4Description: MXA14A Package Page; ComponentLink4URL: http://www.national.com/packaging/folders/mxa14a.html
footprint MXA14A_N (TSOP, 14-Leads, Body 5x4.4mm, Pitch 0.65mm, Thermal Pad, IPC Medium Density)
footprint MXA14A_L (TSOP, 14-Leads, Body 5x4.4mm, Pitch 0.65mm, Thermal Pad, IPC High Density)
footprint MXA14A_M (TSOP, 14-Leads, Body 5x4.4mm, Pitch 0.65mm, Thermal Pad, IPC Low Density)
pins: 1 NC, 2 SW (power), 3 BST (in), 4 ISEN (in), 5 SGND (power), 6 RTN (power), 7 NC, 8 NC, 9 FB (in), 10 SS (in), 11 RON/SD (in), 12 VCC (power), 13 VIN (power), 14 NC, 15 DAP (power)

## LM5010AMHX/NOPB
designator U?
High Voltage 1A Step Down Switching Regulator, 14-pin TSSOP-EP, Pb-Free; PartNumber: LM5010AMHX/NOPB; Manufacturer: National Semiconductor; PackageTopMarking: NSUZXYTT*L5010*AMH; PowerWise: N; CompType: Switcher; High-Reliability: Y; DatasheetVersion: Dec-2008; PackageVersion: revA, Feb-2003; PackageReference: MXA14A; PackageDescription: Molded TSSOP, JEDEC, Exposed Pad, 5.0 x 4.4 x 0.9mm Body, 14 Lead, 0.65mm Pitch; RoHS: Y; PinCount: 14; Code_JEDEC: MO-153-ABT-1; ComponentLink1Description: Manufacturer URL; ComponentLink1URL: http://www.national.com/; ComponentLink2Description: LM5010A Datasheet; ComponentLink2URL: http://www.national.com/ds/LM/LM5010A.pdf; ComponentLink3Description: LM5010A Web Page; ComponentLink3URL: http://www.national.com/pf/LM/LM5010A.html; ComponentLink4Description: MXA14A Package Page; ComponentLink4URL: http://www.national.com/packaging/folders/mxa14a.html
footprint MXA14A_N (TSOP, 14-Leads, Body 5x4.4mm, Pitch 0.65mm, Thermal Pad, IPC Medium Density)
footprint MXA14A_L (TSOP, 14-Leads, Body 5x4.4mm, Pitch 0.65mm, Thermal Pad, IPC High Density)
footprint MXA14A_M (TSOP, 14-Leads, Body 5x4.4mm, Pitch 0.65mm, Thermal Pad, IPC Low Density)
pins: 1 NC, 2 SW (power), 3 BST (in), 4 ISEN (in), 5 SGND (power), 6 RTN (power), 7 NC, 8 NC, 9 FB (in), 10 SS (in), 11 RON/SD (in), 12 VCC (power), 13 VIN (power), 14 NC, 15 DAP (power)

## LM5010AQ0MH
designator U?
High Voltage 1A Step Down Switching Regulator, 14-pin TSSOP-EP; PartNumber: LM5010AQ0MH; Manufacturer: National Semiconductor; PackageTopMarking: NSUZXYTT*L5010A*Q0MH; PowerWise: N; CompType: Switcher; High-Reliability: Y; DatasheetVersion: Dec-2008; PackageVersion: revA, Feb-2003; PackageReference: MXA14A; PackageDescription: Molded TSSOP, JEDEC, Exposed Pad, 5.0 x 4.4 x 0.9mm Body, 14 Lead, 0.65mm Pitch; RoHS: Y; PinCount: 14; Code_JEDEC: MO-153-ABT-1; ComponentLink1Description: Manufacturer URL; ComponentLink1URL: http://www.national.com/; ComponentLink2Description: LM5010A Datasheet; ComponentLink2URL: http://www.national.com/ds/LM/LM5010A.pdf; ComponentLink3Description: LM5010A Web Page; ComponentLink3URL: http://www.national.com/pf/LM/LM5010A.html; ComponentLink4Description: MXA14A Package Page; ComponentLink4URL: http://www.national.com/packaging/folders/mxa14a.html
footprint MXA14A_N (TSOP, 14-Leads, Body 5x4.4mm, Pitch 0.65mm, Thermal Pad, IPC Medium Density)
footprint MXA14A_L (TSOP, 14-Leads, Body 5x4.4mm, Pitch 0.65mm, Thermal Pad, IPC High Density)
footprint MXA14A_M (TSOP, 14-Leads, Body 5x4.4mm, Pitch 0.65mm, Thermal Pad, IPC Low Density)
pins: 1 NC, 2 SW (power), 3 BST (in), 4 ISEN (in), 5 SGND (power), 6 RTN (power), 7 NC, 8 NC, 9 FB (in), 10 SS (in), 11 RON/SD (in), 12 VCC (power), 13 VIN (power), 14 NC, 15 DAP (power)

## LM5010AQ0MH/NOPB
designator U?
High Voltage 1A Step Down Switching Regulator, 14-pin TSSOP-EP, Pb-Free; PartNumber: LM5010AQ0MH/NOPB; Manufacturer: National Semiconductor; PackageTopMarking: NSUZXYTT*L5010A*Q0MH; PowerWise: N; CompType: Switcher; High-Reliability: Y; DatasheetVersion: Dec-2008; PackageVersion: revA, Feb-2003; PackageReference: MXA14A; PackageDescription: Molded TSSOP, JEDEC, Exposed Pad, 5.0 x 4.4 x 0.9mm Body, 14 Lead, 0.65mm Pitch; RoHS: Y; PinCount: 14; Code_JEDEC: MO-153-ABT-1; ComponentLink1Description: Manufacturer URL; ComponentLink1URL: http://www.national.com/; ComponentLink2Description: LM5010A Datasheet; ComponentLink2URL: http://www.national.com/ds/LM/LM5010A.pdf; ComponentLink3Description: LM5010A Web Page; ComponentLink3URL: http://www.national.com/pf/LM/LM5010A.html; ComponentLink4Description: MXA14A Package Page; ComponentLink4URL: http://www.national.com/packaging/folders/mxa14a.html
footprint MXA14A_N (TSOP, 14-Leads, Body 5x4.4mm, Pitch 0.65mm, Thermal Pad, IPC Medium Density)
footprint MXA14A_L (TSOP, 14-Leads, Body 5x4.4mm, Pitch 0.65mm, Thermal Pad, IPC High Density)
footprint MXA14A_M (TSOP, 14-Leads, Body 5x4.4mm, Pitch 0.65mm, Thermal Pad, IPC Low Density)
pins: 1 NC, 2 SW (power), 3 BST (in), 4 ISEN (in), 5 SGND (power), 6 RTN (power), 7 NC, 8 NC, 9 FB (in), 10 SS (in), 11 RON/SD (in), 12 VCC (power), 13 VIN (power), 14 NC, 15 DAP (power)

## LM5010AQ0MHX/NOPB
designator U?
High Voltage 1A Step Down Switching Regulator, 14-pin TSSOP-EP, Pb-Free; PartNumber: LM5010AQ0MHX/NOPB; Manufacturer: National Semiconductor; PackageTopMarking: NSUZXYTT*L5010A*Q0MH; PowerWise: N; CompType: Switcher; High-Reliability: Y; DatasheetVersion: Dec-2008; PackageVersion: revA, Feb-2003; PackageReference: MXA14A; PackageDescription: Molded TSSOP, JEDEC, Exposed Pad, 5.0 x 4.4 x 0.9mm Body, 14 Lead, 0.65mm Pitch; RoHS: Y; PinCount: 14; Code_JEDEC: MO-153-ABT-1; ComponentLink1Description: Manufacturer URL; ComponentLink1URL: http://www.national.com/; ComponentLink2Description: LM5010A Datasheet; ComponentLink2URL: http://www.national.com/ds/LM/LM5010A.pdf; ComponentLink3Description: LM5010A Web Page; ComponentLink3URL: http://www.national.com/pf/LM/LM5010A.html; ComponentLink4Description: MXA14A Package Page; ComponentLink4URL: http://www.national.com/packaging/folders/mxa14a.html
footprint MXA14A_N (TSOP, 14-Leads, Body 5x4.4mm, Pitch 0.65mm, Thermal Pad, IPC Medium Density)
footprint MXA14A_L (TSOP, 14-Leads, Body 5x4.4mm, Pitch 0.65mm, Thermal Pad, IPC High Density)
footprint MXA14A_M (TSOP, 14-Leads, Body 5x4.4mm, Pitch 0.65mm, Thermal Pad, IPC Low Density)
pins: 1 NC, 2 SW (power), 3 BST (in), 4 ISEN (in), 5 SGND (power), 6 RTN (power), 7 NC, 8 NC, 9 FB (in), 10 SS (in), 11 RON/SD (in), 12 VCC (power), 13 VIN (power), 14 NC, 15 DAP (power)

## LM5010AQ1MH
designator U?
High Voltage 1A Step Down Switching Regulator, 14-pin TSSOP-EP; PartNumber: LM5010AQ1MH; Manufacturer: National Semiconductor; PackageTopMarking: NSUZXYTT*L5010A*Q1MH; PowerWise: N; CompType: Switcher; High-Reliability: Y; DatasheetVersion: Dec-2008; PackageVersion: revA, Feb-2003; PackageReference: MXA14A; PackageDescription: Molded TSSOP, JEDEC, Exposed Pad, 5.0 x 4.4 x 0.9mm Body, 14 Lead, 0.65mm Pitch; RoHS: Y; PinCount: 14; Code_JEDEC: MO-153-ABT-1; ComponentLink1Description: Manufacturer URL; ComponentLink1URL: http://www.national.com/; ComponentLink2Description: LM5010A Datasheet; ComponentLink2URL: http://www.national.com/ds/LM/LM5010A.pdf; ComponentLink3Description: LM5010A Web Page; ComponentLink3URL: http://www.national.com/pf/LM/LM5010A.html; ComponentLink4Description: MXA14A Package Page; ComponentLink4URL: http://www.national.com/packaging/folders/mxa14a.html
footprint MXA14A_N (TSOP, 14-Leads, Body 5x4.4mm, Pitch 0.65mm, Thermal Pad, IPC Medium Density)
footprint MXA14A_L (TSOP, 14-Leads, Body 5x4.4mm, Pitch 0.65mm, Thermal Pad, IPC High Density)
footprint MXA14A_M (TSOP, 14-Leads, Body 5x4.4mm, Pitch 0.65mm, Thermal Pad, IPC Low Density)
pins: 1 NC, 2 SW (power), 3 BST (in), 4 ISEN (in), 5 SGND (power), 6 RTN (power), 7 NC, 8 NC, 9 FB (in), 10 SS (in), 11 RON/SD (in), 12 VCC (power), 13 VIN (power), 14 NC, 15 DAP (power)

## LM5010AQ1MH/NOPB
designator U?
High Voltage 1A Step Down Switching Regulator, 14-pin TSSOP-EP, Pb-Free; PartNumber: LM5010AQ1MH/NOPB; Manufacturer: National Semiconductor; PackageTopMarking: NSUZXYTT*L5010A*Q1MH; PowerWise: N; CompType: Switcher; High-Reliability: Y; DatasheetVersion: Dec-2008; PackageVersion: revA, Feb-2003; PackageReference: MXA14A; PackageDescription: Molded TSSOP, JEDEC, Exposed Pad, 5.0 x 4.4 x 0.9mm Body, 14 Lead, 0.65mm Pitch; RoHS: Y; PinCount: 14; Code_JEDEC: MO-153-ABT-1; ComponentLink1Description: Manufacturer URL; ComponentLink1URL: http://www.national.com/; ComponentLink2Description: LM5010A Datasheet; ComponentLink2URL: http://www.national.com/ds/LM/LM5010A.pdf; ComponentLink3Description: LM5010A Web Page; ComponentLink3URL: http://www.national.com/pf/LM/LM5010A.html; ComponentLink4Description: MXA14A Package Page; ComponentLink4URL: http://www.national.com/packaging/folders/mxa14a.html
footprint MXA14A_N (TSOP, 14-Leads, Body 5x4.4mm, Pitch 0.65mm, Thermal Pad, IPC Medium Density)
footprint MXA14A_L (TSOP, 14-Leads, Body 5x4.4mm, Pitch 0.65mm, Thermal Pad, IPC High Density)
footprint MXA14A_M (TSOP, 14-Leads, Body 5x4.4mm, Pitch 0.65mm, Thermal Pad, IPC Low Density)
pins: 1 NC, 2 SW (power), 3 BST (in), 4 ISEN (in), 5 SGND (power), 6 RTN (power), 7 NC, 8 NC, 9 FB (in), 10 SS (in), 11 RON/SD (in), 12 VCC (power), 13 VIN (power), 14 NC, 15 DAP (power)

## LM5010AQ1MHX/NOPB
designator U?
High Voltage 1A Step Down Switching Regulator, 14-pin TSSOP-EP, Pb-Free; PartNumber: LM5010AQ1MHX/NOPB; Manufacturer: National Semiconductor; PackageTopMarking: NSUZXYTT*L5010A*Q1MH; PowerWise: N; CompType: Switcher; High-Reliability: Y; DatasheetVersion: Dec-2008; PackageVersion: revA, Feb-2003; PackageReference: MXA14A; PackageDescription: Molded TSSOP, JEDEC, Exposed Pad, 5.0 x 4.4 x 0.9mm Body, 14 Lead, 0.65mm Pitch; RoHS: Y; PinCount: 14; Code_JEDEC: MO-153-ABT-1; ComponentLink1Description: Manufacturer URL; ComponentLink1URL: http://www.national.com/; ComponentLink2Description: LM5010A Datasheet; ComponentLink2URL: http://www.national.com/ds/LM/LM5010A.pdf; ComponentLink3Description: LM5010A Web Page; ComponentLink3URL: http://www.national.com/pf/LM/LM5010A.html; ComponentLink4Description: MXA14A Package Page; ComponentLink4URL: http://www.national.com/packaging/folders/mxa14a.html
footprint MXA14A_N (TSOP, 14-Leads, Body 5x4.4mm, Pitch 0.65mm, Thermal Pad, IPC Medium Density)
footprint MXA14A_L (TSOP, 14-Leads, Body 5x4.4mm, Pitch 0.65mm, Thermal Pad, IPC High Density)
footprint MXA14A_M (TSOP, 14-Leads, Body 5x4.4mm, Pitch 0.65mm, Thermal Pad, IPC Low Density)
pins: 1 NC, 2 SW (power), 3 BST (in), 4 ISEN (in), 5 SGND (power), 6 RTN (power), 7 NC, 8 NC, 9 FB (in), 10 SS (in), 11 RON/SD (in), 12 VCC (power), 13 VIN (power), 14 NC, 15 DAP (power)

## LM5010ASD
designator U?
High Voltage 1A Step Down Switching Regulator, 10-pin LLP; PartNumber: LM5010ASD; Manufacturer: National Semiconductor; PackageTopMarking: NS*UZXYTT*L00065B; PowerWise: N; CompType: Switcher; High-Reliability: Y; DatasheetVersion: Dec-2008; PackageVersion: revA, May-2003; PackageReference: SDC10A; PackageDescription: LLP, Plastic, Dual, 4 x 4 x 0.8mm Body, 10 Lead, 0.8mm Pitch, No Pullback; RoHS: N; PinCount: 10; ComponentLink1Description: Manufacturer URL; ComponentLink1URL: http://www.national.com/; ComponentLink2Description: LM5010A Datasheet; ComponentLink2URL: http://www.national.com/ds/LM/LM5010A.pdf; ComponentLink3Description: LM5010A Web Page; ComponentLink3URL: http://www.national.com/pf/LM/LM5010A.html; ComponentLink4Description: SDC10A Package Page; ComponentLink4URL: http://www.national.com/packaging/folders/sdc10a.html
footprint SDC10A (SON, 10-Leads, Body 4x4 mm, Pitch 0.8mm, NSC Recommended)
pins: 1 SW (power), 2 BST (in), 3 ISEN (in), 4 SGND (power), 5 RTN (power), 6 FB (in), 7 SS (in), 8 RON/SD (in), 9 VCC (power), 10 VIN (power), 11 DAP (power)

## LM5010ASD/NOPB
designator U?
High Voltage 1A Step Down Switching Regulator, 10-pin LLP, Pb-Free; PartNumber: LM5010ASD/NOPB; Manufacturer: National Semiconductor; PackageTopMarking: NS*UZXYTT*L00065B; PowerWise: N; CompType: Switcher; High-Reliability: Y; DatasheetVersion: Dec-2008; PackageVersion: revA, May-2003; PackageReference: SDC10A; PackageDescription: LLP, Plastic, Dual, 4 x 4 x 0.8mm Body, 10 Lead, 0.8mm Pitch, No Pullback; RoHS: Y; PinCount: 10; ComponentLink1Description: Manufacturer URL; ComponentLink1URL: http://www.national.com/; ComponentLink2Description: LM5010A Datasheet; ComponentLink2URL: http://www.national.com/ds/LM/LM5010A.pdf; ComponentLink3Description: LM5010A Web Page; ComponentLink3URL: http://www.national.com/pf/LM/LM5010A.html; ComponentLink4Description: SDC10A Package Page; ComponentLink4URL: http://www.national.com/packaging/folders/sdc10a.html
footprint SDC10A (SON, 10-Leads, Body 4x4 mm, Pitch 0.8mm, NSC Recommended)
pins: 1 SW (power), 2 BST (in), 3 ISEN (in), 4 SGND (power), 5 RTN (power), 6 FB (in), 7 SS (in), 8 RON/SD (in), 9 VCC (power), 10 VIN (power), 11 DAP (power)

## LM5010ASDX
designator U?
High Voltage 1A Step Down Switching Regulator, 10-pin LLP; PartNumber: LM5010ASDX; Manufacturer: National Semiconductor; PackageTopMarking: NS*UZXYTT*L00065B; PowerWise: N; CompType: Switcher; High-Reliability: Y; DatasheetVersion: Dec-2008; PackageVersion: revA, May-2003; PackageReference: SDC10A; PackageDescription: LLP, Plastic, Dual, 4 x 4 x 0.8mm Body, 10 Lead, 0.8mm Pitch, No Pullback; RoHS: N; PinCount: 10; ComponentLink1Description: Manufacturer URL; ComponentLink1URL: http://www.national.com/; ComponentLink2Description: LM5010A Datasheet; ComponentLink2URL: http://www.national.com/ds/LM/LM5010A.pdf; ComponentLink3Description: LM5010A Web Page; ComponentLink3URL: http://www.national.com/pf/LM/LM5010A.html; ComponentLink4Description: SDC10A Package Page; ComponentLink4URL: http://www.national.com/packaging/folders/sdc10a.html
footprint SDC10A (SON, 10-Leads, Body 4x4 mm, Pitch 0.8mm, NSC Recommended)
pins: 1 SW (power), 2 BST (in), 3 ISEN (in), 4 SGND (power), 5 RTN (power), 6 FB (in), 7 SS (in), 8 RON/SD (in), 9 VCC (power), 10 VIN (power), 11 DAP (power)

## LM5010ASDX/NOPB
designator U?
High Voltage 1A Step Down Switching Regulator, 10-pin LLP, Pb-Free; PartNumber: LM5010ASDX/NOPB; Manufacturer: National Semiconductor; PackageTopMarking: NS*UZXYTT*L00065B; PowerWise: N; CompType: Switcher; High-Reliability: Y; DatasheetVersion: Dec-2008; PackageVersion: revA, May-2003; PackageReference: SDC10A; PackageDescription: LLP, Plastic, Dual, 4 x 4 x 0.8mm Body, 10 Lead, 0.8mm Pitch, No Pullback; RoHS: Y; PinCount: 10; ComponentLink1Description: Manufacturer URL; ComponentLink1URL: http://www.national.com/; ComponentLink2Description: LM5010A Datasheet; ComponentLink2URL: http://www.national.com/ds/LM/LM5010A.pdf; ComponentLink3Description: LM5010A Web Page; ComponentLink3URL: http://www.national.com/pf/LM/LM5010A.html; ComponentLink4Description: SDC10A Package Page; ComponentLink4URL: http://www.national.com/packaging/folders/sdc10a.html
footprint SDC10A (SON, 10-Leads, Body 4x4 mm, Pitch 0.8mm, NSC Recommended)
pins: 1 SW (power), 2 BST (in), 3 ISEN (in), 4 SGND (power), 5 RTN (power), 6 FB (in), 7 SS (in), 8 RON/SD (in), 9 VCC (power), 10 VIN (power), 11 DAP (power)

## LM5010MH
designator U?
High Voltage 1A Step Down Switching Regulator, 14-pin TSSOP-EP; PartNumber: LM5010MH; Manufacturer: National Semiconductor; PackageTopMarking: NSUZXYTT*L5010*MH; PowerWise: N; CompType: Switcher; High-Reliability: Y; DatasheetVersion: Feb-2008; PackageVersion: revA, Feb-2003; PackageReference: MXA14A; PackageDescription: Molded TSSOP, JEDEC, Exposed Pad, 5.0 x 4.4 x 0.9mm Body, 14 Lead, 0.65mm Pitch; RoHS: N; PinCount: 14; Code_JEDEC: MO-153-ABT-1; ComponentLink1Description: Manufacturer URL; ComponentLink1URL: http://www.national.com/; ComponentLink2Description: LM5010 Datasheet; ComponentLink2URL: http://www.national.com/ds/LM/LM5010.pdf; ComponentLink3Description: LM5010 Web Page; ComponentLink3URL: http://www.national.com/pf/LM/LM5010.html; ComponentLink4Description: MXA14A Package Page; ComponentLink4URL: http://www.national.com/packaging/folders/mxa14a.html
footprint MXA14A_N (TSOP, 14-Leads, Body 5x4.4mm, Pitch 0.65mm, Thermal Pad, IPC Medium Density)
footprint MXA14A_L (TSOP, 14-Leads, Body 5x4.4mm, Pitch 0.65mm, Thermal Pad, IPC High Density)
footprint MXA14A_M (TSOP, 14-Leads, Body 5x4.4mm, Pitch 0.65mm, Thermal Pad, IPC Low Density)
pins: 1 NC, 2 SW (power), 3 BST (in), 4 ISEN (in), 5 SGND (power), 6 RTN (power), 7 NC, 8 NC, 9 FB (in), 10 SS (in), 11 RON/SD (in), 12 VCC (power), 13 VIN (power), 14 NC, 15 DAP (power)

## LM5010MH/NOPB
designator U?
High Voltage 1A Step Down Switching Regulator, 14-pin TSSOP-EP, Pb-Free; PartNumber: LM5010MH/NOPB; Manufacturer: National Semiconductor; PackageTopMarking: NSUZXYTT*L5010*MH; PowerWise: N; CompType: Switcher; High-Reliability: Y; DatasheetVersion: Feb-2008; PackageVersion: revA, Feb-2003; PackageReference: MXA14A; PackageDescription: Molded TSSOP, JEDEC, Exposed Pad, 5.0 x 4.4 x 0.9mm Body, 14 Lead, 0.65mm Pitch; RoHS: Y; PinCount: 14; Code_JEDEC: MO-153-ABT-1; ComponentLink1Description: Manufacturer URL; ComponentLink1URL: http://www.national.com/; ComponentLink2Description: LM5010 Datasheet; ComponentLink2URL: http://www.national.com/ds/LM/LM5010.pdf; ComponentLink3Description: LM5010 Web Page; ComponentLink3URL: http://www.national.com/pf/LM/LM5010.html; ComponentLink4Description: MXA14A Package Page; ComponentLink4URL: http://www.national.com/packaging/folders/mxa14a.html
footprint MXA14A_N (TSOP, 14-Leads, Body 5x4.4mm, Pitch 0.65mm, Thermal Pad, IPC Medium Density)
footprint MXA14A_L (TSOP, 14-Leads, Body 5x4.4mm, Pitch 0.65mm, Thermal Pad, IPC High Density)
footprint MXA14A_M (TSOP, 14-Leads, Body 5x4.4mm, Pitch 0.65mm, Thermal Pad, IPC Low Density)
pins: 1 NC, 2 SW (power), 3 BST (in), 4 ISEN (in), 5 SGND (power), 6 RTN (power), 7 NC, 8 NC, 9 FB (in), 10 SS (in), 11 RON/SD (in), 12 VCC (power), 13 VIN (power), 14 NC, 15 DAP (power)

## LM5010SD
designator U?
High Voltage 1A Step Down Switching Regulator, 10-pin LLP; PartNumber: LM5010SD; Manufacturer: National Semiconductor; PackageTopMarking: NS*UZXYTT*L00057B; PowerWise: N; CompType: Switcher; High-Reliability: Y; DatasheetVersion: Feb-2008; PackageVersion: revA, May-2003; PackageReference: SDC10A; PackageDescription: LLP, Plastic, Dual, 4 x 4 x 0.8mm Body, 10 Lead, 0.8mm Pitch, No Pullback; RoHS: N; PinCount: 10; ComponentLink1Description: Manufacturer URL; ComponentLink1URL: http://www.national.com/; ComponentLink2Description: LM5010 Datasheet; ComponentLink2URL: http://www.national.com/ds/LM/LM5010.pdf; ComponentLink3Description: LM5010 Web Page; ComponentLink3URL: http://www.national.com/pf/LM/LM5010.html; ComponentLink4Description: SDC10A Package Page; ComponentLink4URL: http://www.national.com/packaging/folders/sdc10a.html
footprint SDC10A (SON, 10-Leads, Body 4x4 mm, Pitch 0.8mm, NSC Recommended)
pins: 1 SW (power), 2 BST (in), 3 ISEN (in), 4 SGND (power), 5 RTN (power), 6 FB (in), 7 SS (in), 8 RON/SD (in), 9 VCC (power), 10 VIN (power), 11 DAP (power)